# Altium schematic symbol library 1.5 - 电路模块.SchLib: 20 symbols
Pins are listed as number, name and electrical type; pins without a type are passive.

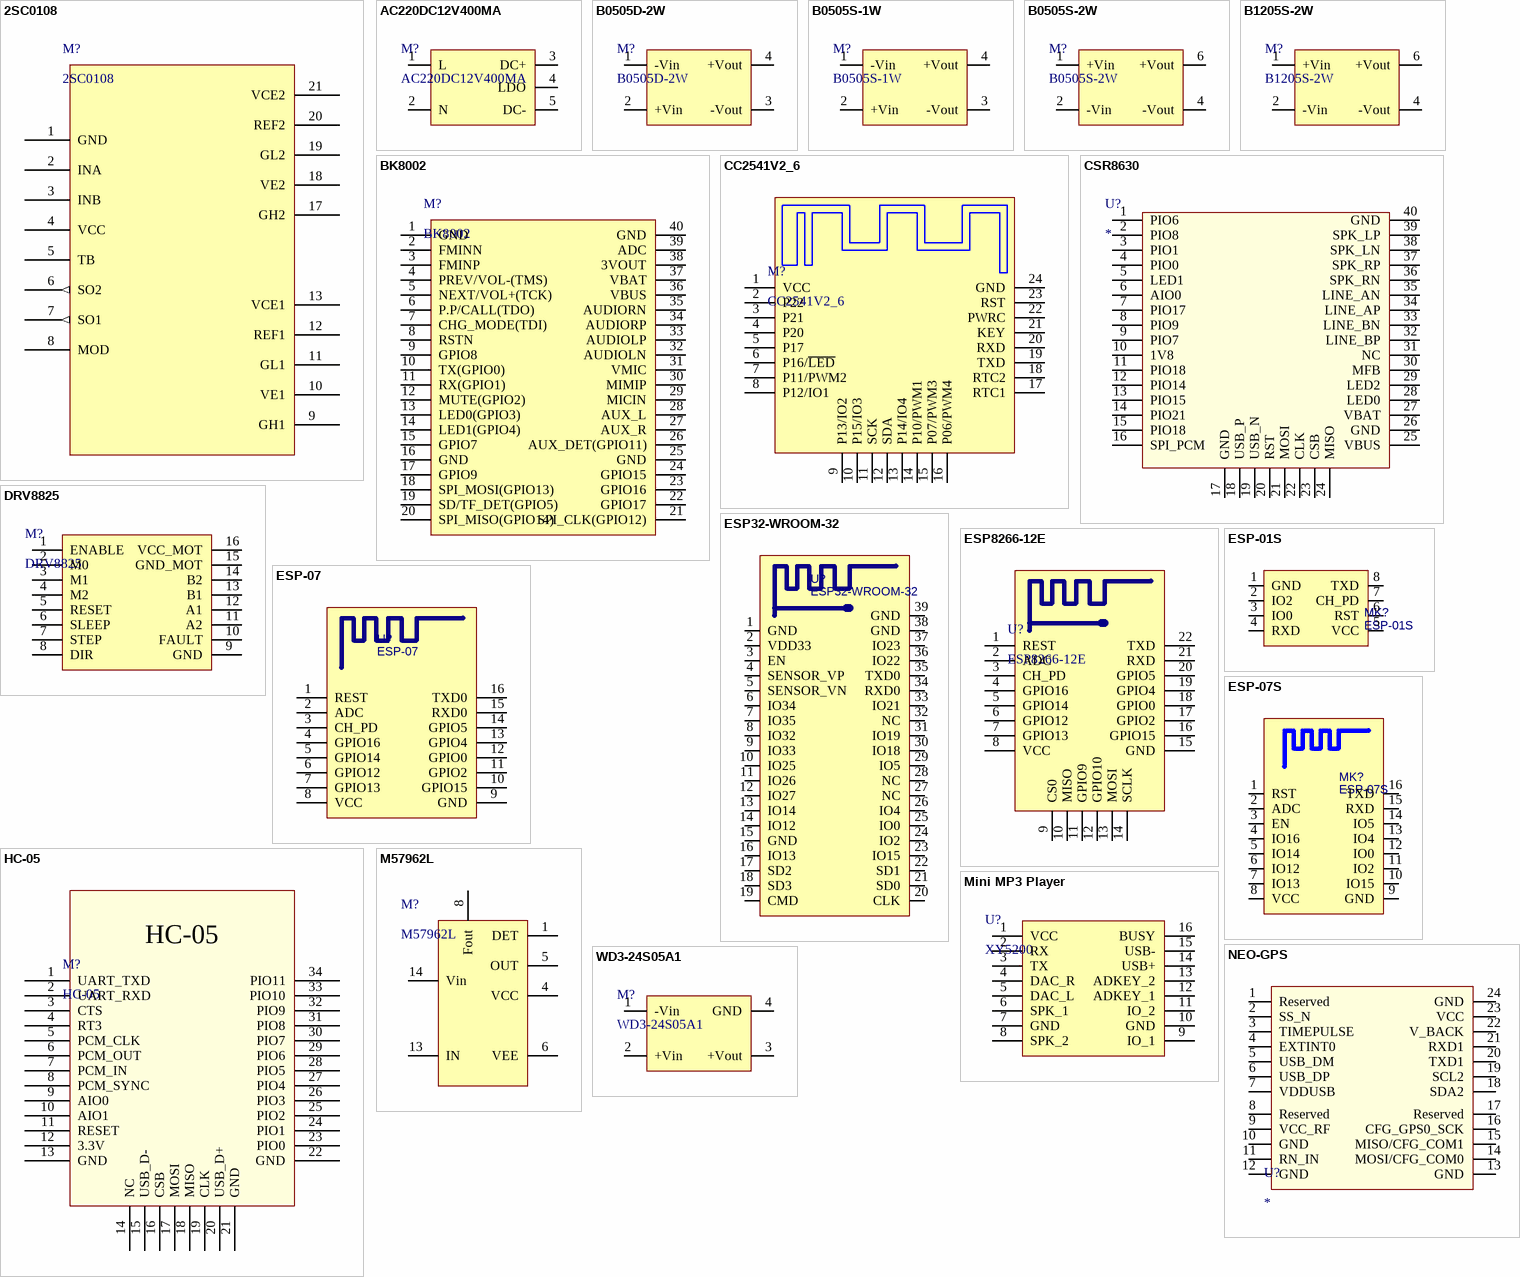
[diagram p0: symbols 2SC0108 to WD3-24S05A1]

## 2SC0108
designator M?
IGBT驱动模块; 卖家免费技术支持，联系售后: 唯一出售店铺网址https://shop463601444.taobao.com; BOM名称: IGBT驱动模块
footprint 2SC0108 (45mm*34.29mm*16mm(长*宽*高))
pins: 1 GND, 2 INA, 3 INB, 4 VCC, 5 TB, 6 SO2 (out), 7 SO1 (out), 8 MOD, 9 GH1, 10 VE1, 11 GL1, 12 REF1, 13 VCE1, 17 GH2, 18 VE2, 19 GL2, 20 REF2, 21 VCE2

## AC220DC12V400MA
designator M?
AC-DC模块; 卖家免费技术支持，联系售后: 唯一出售店铺网址https://shop463601444.taobao.com; BOM名称: AC-DC模块
footprint ADDC302018 (长宽高30*20*18（mm）)
pins: 1 L, 2 N, 3 DC+, 4 LDO, 5 DC-

## B0505D-2W
designator M?
DC-DC模块; 卖家免费技术支持，联系售后: 唯一出售店铺网址https://shop463601444.taobao.com; BOM名称: DC-DC模块
footprint B0505D-2W (19.5mm*9.8mm*7.7mm(长*宽*高）)
pins: 1 -Vin, 2 +Vin, 3 -Vout, 4 +Vout

## B0505S-1W
designator M?
DC-DC模块; 卖家免费技术支持，联系售后: 唯一出售店铺网址https://shop463601444.taobao.com; BOM名称: DC-DC模块
footprint B0505S-1W (11.68mm*6mm*9.65mm(长*宽*高）)
pins: 1 -Vin, 2 +Vin, 3 -Vout, 4 +Vout

## B0505S-2W
designator M?
DC-DC模块; 卖家免费技术支持，联系售后: 唯一出售店铺网址https://shop463601444.taobao.com; BOM名称: DC-DC模块
footprint B0505S-2W (Footprint not found)
pins: 1 +Vin, 2 -Vin, 4 -Vout, 6 +Vout

## B1205S-2W
designator M?
DC-DC模块; 卖家免费技术支持，联系售后: 唯一出售店铺网址https://shop463601444.taobao.com; BOM名称: DC-DC模块
footprint B0505S-2W (Footprint not found)
pins: 1 +Vin, 2 -Vin, 4 -Vout, 6 +Vout

## BK8002
designator M?
蓝牙模块，带FM; BOM名称: 蓝牙立体声模块; 卖家免费技术支持，联系售后: 唯一出售店铺网址https://shop463601444.taobao.com
footprint BK8002
pins: 1 GND, 2 FMINN, 3 FMINP, 4 PREV/VOL-(TMS), 5 NEXT/VOL+(TCK), 6 P.P/CALL(TDO), 7 CHG_MODE(TDI), 8 RSTN, 9 GPIO8, 10 TX(GPIO0), 11 RX(GPIO1), 12 MUTE(GPIO2), 13 LED0(GPIO3), 14 LED1(GPIO4), 15 GPIO7, 16 GND, 17 GPIO9, 18 SPI_MOSI(GPIO13), 19 SD/TF_DET(GPIO5), 20 SPI_MISO(GPIO14), 21 SPI_CLK(GPIO12), 22 GPIO17, 23 GPIO16, 24 GPIO15, 25 GND, 26 AUX_DET(GPIO11), 27 AUX_R, 28 AUX_L, 29 MICIN, 30 MIMIP, 31 VMIC, 32 AUDIOLN, 33 AUDIOLP, 34 AUDIORP, 35 AUDIORN, 36 VBUS, 37 VBAT, 38 3VOUT, 39 ADC, 40 GND

## CC2541V2_6
designator M?
蓝牙4.0透传模块; 卖家免费技术支持，联系售后: 唯一出售店铺网址https://shop463601444.taobao.com; BOM名称: 蓝牙4.0透传模块
footprint CC2541V2_6 (蓝牙4.0透传模块)
pins: 1 VCC, 2 P22, 3 P21, 4 P20, 5 P17, 6 P16/~{LED}, 7 P11/PWM2, 8 P12/IO1, 9 P13/IO2, 10 P15/IO3, 11 SCK, 12 SDA, 13 P14/IO4, 14 P10/PWM1, 15 P07/PWM3, 16 P06/PWM4, 17 RTC1, 18 RTC2, 19 TXD, 20 RXD, 21 KEY, 22 PWRC, 23 RST, 24 GND

## CSR8630
designator U?
蓝牙音乐接收模块; 卖家免费技术支持，联系售后: 唯一出售店铺网址https://shop463601444.taobao.com
footprint CSR_8630
pins: 1 PIO6, 2 PIO8, 3 PIO1, 4 PIO0, 5 LED1, 6 AIO0, 7 PIO17, 8 PIO9, 9 PIO7, 10 1V8, 11 PIO18, 12 PIO14, 13 PIO15, 14 PIO21, 15 PIO18, 16 SPI_PCM, 17 GND, 18 USB_P, 19 USB_N, 20 RST, 21 MOSI, 22 CLK, 23 CSB, 24 MISO, 25 VBUS, 26 GND, 27 VBAT, 28 LED0, 29 LED2, 30 MFB, 31 NC, 32 LINE_BP, 33 LINE_BN, 34 LINE_AP, 35 LINE_AN, 36 SPK_RN, 37 SPK_RP, 38 SPK_LN, 39 SPK_LP, 40 GND

## DRV8825
designator M?
步进电机驱动模块; 卖家免费技术支持，联系售后: 唯一出售店铺网址https://shop463601444.taobao.com; BOM名称: 步进电机驱动模块
footprint DRV8825 (长:20.5mm，宽:15.5mm，高:5mm)
pins: 1 ENABLE, 2 M0, 3 M1, 4 M2, 5 RESET, 6 SLEEP, 7 STEP, 8 DIR, 9 GND, 10 FAULT, 11 A2, 12 A1, 13 B1, 14 B2, 15 GND_MOT, 16 VCC_MOT

## ESP32-WROOM-32
designator U?
串口WIFI模块; 品牌: Espressif Systems; 唯一出售店铺网址https://shop463601444.taobao.com: 其他店铺购入均为盗版假冒封装库，请立即申请退款; 联系卖家 免费查找封装: 封装库来自淘宝卖家 ID：黄晶宝石; BOM名称: ESP32-WROOM-32
footprint ESP32-WROOM-32 (SMD, 38-Leads, Body 18x25.5mm, Pitch 1.27mm)
pins: 1 GND, 2 VDD33, 3 EN, 4 SENSOR_VP, 5 SENSOR_VN, 6 IO34, 7 IO35, 8 IO32, 9 IO33, 10 IO25, 11 IO26, 12 IO27, 13 IO14, 14 IO12, 15 GND, 16 IO13, 17 SD2, 18 SD3, 19 CMD, 20 CLK, 21 SD0, 22 SD1, 23 IO15, 24 IO2, 25 IO0, 26 IO4, 27 NC, 28 NC, 29 IO5, 30 IO18, 31 IO19, 32 NC, 33 IO21, 34 RXD0, 35 TXD0, 36 IO22, 37 IO23, 38 GND, 39 GND

## ESP8266-12E
designator U?
串口 WIFI模块，ESP-12E; BOM名称: WIFI模块; 卖家免费技术支持，联系售后: 唯一出售店铺网址https://shop463601444.taobao.com
footprint ESP-12E (ESP-12 Wi-Fi Module by AI-Thinker)
pins: 1 REST, 2 ADC, 3 CH_PD, 4 GPIO16, 5 GPIO14, 6 GPIO12, 7 GPIO13, 8 VCC, 9 CS0, 10 MISO, 11 GPIO9, 12 GPIO10, 13 MOSI, 14 SCLK, 15 GND, 16 GPIO15, 17 GPIO2, 18 GPIO0, 19 GPIO4, 20 GPIO5, 21 RXD, 22 TXD

## ESP-01S
designator MK?
串口WIFI模块; 品牌: Ai-Thinker; 唯一出售店铺网址https://shop463601444.taobao.com: 其他店铺购入均为盗版假冒封装库，请立即申请退款; 联系卖家 免费查找封装: 封装库来自淘宝卖家 ID：黄晶宝石; BOM名称: ESP-01S
footprint ESP-01S
pins: 1 GND, 2 IO2, 3 IO0, 4 RXD, 5 VCC, 6 RST, 7 CH_PD, 8 TXD

## ESP-07
designator U?
串口WIFI模块; 品牌: Ai-Thinker; 唯一出售店铺网址https://shop463601444.taobao.com: 其他店铺购入均为盗版假冒封装库，请立即申请退款; 联系卖家 免费查找封装: 封装库来自淘宝卖家 ID：黄晶宝石; BOM名称: ESP-07
footprint ESP-07
pins: 1 REST, 2 ADC, 3 CH_PD, 4 GPIO16, 5 GPIO14, 6 GPIO12, 7 GPIO13, 8 VCC, 9 GND, 10 GPIO15, 11 GPIO2, 12 GPIO0, 13 GPIO4, 14 GPIO5, 15 RXD0, 16 TXD0

## ESP-07S
designator MK?
串口WIFI模块; 品牌: Ai-Thinker; 唯一出售店铺网址https://shop463601444.taobao.com: 其他店铺购入均为盗版假冒封装库，请立即申请退款; 联系卖家 免费查找封装: 封装库来自淘宝卖家 ID：黄晶宝石; BOM名称: ESP-07S
footprint ESP-07S
pins: 1 RST, 2 ADC, 3 EN, 4 IO16, 5 IO14, 6 IO12, 7 IO13, 8 VCC, 9 GND, 10 IO15, 11 IO2, 12 IO0, 13 IO4, 14 IO5, 15 RXD, 16 TXD

## HC-05
designator M?
串口蓝牙模块; 卖家免费技术支持，联系售后: 唯一出售店铺网址https://shop463601444.taobao.com; BOM名称: 串口蓝牙模块
footprint HC-05 (串口蓝牙模块)
pins: 1 UART_TXD, 2 UART_RXD, 3 CTS, 4 RT3, 5 PCM_CLK, 6 PCM_OUT, 7 PCM_IN, 8 PCM_SYNC, 9 AIO0, 10 AIO1, 11 RESET, 12 3.3V, 13 GND, 14 NC, 15 USB_D-, 16 CSB, 17 MOSI, 18 MISO, 19 CLK, 20 USB_D+, 21 GND, 22 GND, 23 PIO0, 24 PIO1, 25 PIO2, 26 PIO3, 27 PIO4, 28 PIO5, 29 PIO6, 30 PIO7, 31 PIO8, 32 PIO9, 33 PIO10, 34 PIO11

## M57962L
designator M?
IGBT驱动; 卖家免费技术支持，联系售后: 唯一出售店铺网址https://shop463601444.taobao.com; BOM名称: IGBT驱动
footprint M57962L (IGBT驱动模块)
pins: 1 DET, 4 VCC, 5 OUT, 6 VEE, 8 Fout, 13 IN, 14 Vin

## Mini MP3 Player
designator U?, comment XY5200
MP3模块; 卖家免费技术支持，联系售后: 唯一出售店铺网址https://shop463601444.taobao.com; BOM名称: MP3模块
footprint DFPlayer Mini (长：21mm ， 宽： 21mm，高：6mm)
pins: 1 VCC, 2 RX, 3 TX, 4 DAC_R, 5 DAC_L, 6 SPK_1, 7 GND, 8 SPK_2, 9 IO_1, 10 GND, 11 IO_2, 12 ADKEY_1, 13 ADKEY_2, 14 USB+, 15 USB-, 16 BUSY

## NEO-GPS
designator U?
卖家免费技术支持，联系售后: 唯一出售店铺网址https://shop463601444.taobao.com
footprint NEO-6M-0-001 (Footprint not found)
pins: 1 Reserved, 2 SS_N, 3 TIMEPULSE, 4 EXTINT0, 5 USB_DM, 6 USB_DP, 7 VDDUSB, 8 Reserved, 9 VCC_RF, 10 GND, 11 RN_IN, 12 GND, 13 GND, 14 MOSI/CFG_COM0, 15 MISO/CFG_COM1, 16 CFG_GPS0_SCK, 17 Reserved, 18 SDA2, 19 SCL2, 20 TXD1, 21 RXD1, 22 V_BACK, 23 VCC, 24 GND

## WD3-24S05A1
designator M?
24V转5V模块; 卖家免费技术支持，联系售后: 唯一出售店铺网址https://shop463601444.taobao.com; BOM名称: 24V转5V模块
footprint WD-24S05A1 (3W-24V转5V模块)
pins: 1 -Vin, 2 +Vin, 3 +Vout, 4 GND